# EAGLE library part CP2102 (library USB Treiber - CP2102)
Name des Bauteiles:USB/UART-Wandlerr Daten:SMD. QFN 28, Silicon LAB: CP2102-GMR Artikelnummer: #045194 Datenblatt:www.alldatascheet.com
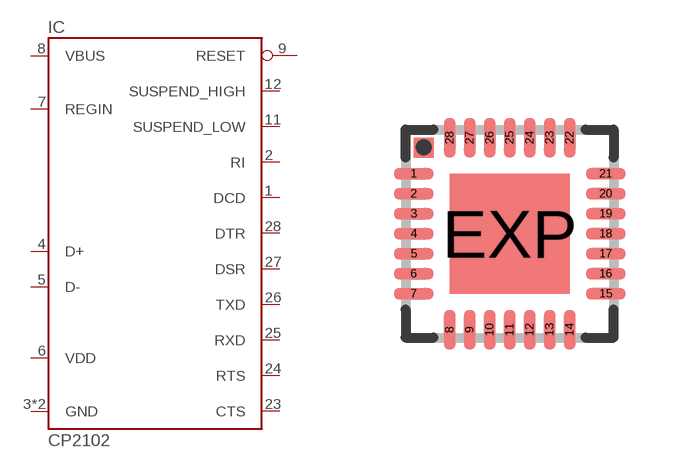
[diagram p0: symbol with the pads of QFN28; footprint QFN28]

Designator prefix IC

## CP2102-GMR  [QFN28]
1  DCD
2  RI
3  GND
4  D+
5  D-
6  VDD
7  REGIN
8  VBUS
9  RESET
11  SUSPEND_LOW
12  SUSPEND_HIGH
23  CTS
24  RTS
25  RXD
26  TXD
27  DSR
28  DTR
EXP  GND

## Footprint QFN28 (pad centres in mm)
smd 1 x 0.3: 1 -2.4,1.5; 2 -2.4,1; 3 -2.4,0.5; 4 -2.4,0; 5 -2.4,-0.5; 6 -2.4,-1; 7 -2.4,-1.5; 15 2.4,-1.5; 16 2.4,-1; 17 2.4,-0.5; 18 2.4,0; 19 2.4,0.5; 20 2.4,1; 21 2.4,1.5
smd 0.3 x 1: 8 -1.5,-2.4; 9 -1,-2.4; 10 -0.5,-2.4; 11 0,-2.4; 12 0.5,-2.4; 13 1,-2.4; 14 1.5,-2.4; 22 1.5,2.4; 23 1,2.4; 24 0.5,2.4; 25 0,2.4; 26 -0.5,2.4; 27 -1,2.4; 28 -1.5,2.4
smd 3 x 3: EXP 0,0